# Altium footprint library BATTERIJ_OPLADERS.PcbLib: 2 footprints
Each footprint in its own frame and in the unit in brackets; x right, y up, seen from the top. Pads: shape width x height; smd on the part's side, far side on the other; paste and mask are expansions set on the pad; w line width, h text height; cw(c..) or ccw(c..) is an arc to the next point about the centre after c.
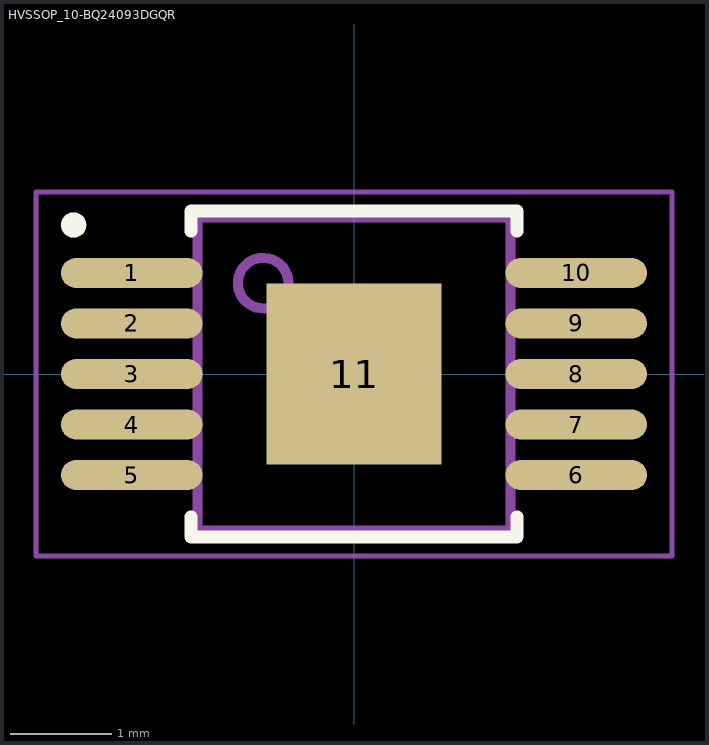
[diagram p0: the footprints below, top view; thin cyan lines are the x and y axes]

## HVSSOP_10-BQ24093DGQR [mm] "Battery Management 1A Sgl-Inp Sgl-Cell Li-Ion Batt Charger"
height 2
pads (11):
  oval 1.4x0.3 smd: 1(-2.2,1) 2(-2.2,0.5) 3(-2.2,0) 4(-2.2,-0.5) 5(-2.2,-1) 6(2.2,-1) 7(2.2,-0.5) 8(2.2,0) 9(2.2,0.5) 10(2.2,1)
  rect 1.73x1.79 smd: 11(0,0)
Top Overlay:
  circle w0.125: c-2.775,1.475 r0.062
  lines w0.127: -1.613,-1.413 -1.613,-1.613 1.613,-1.613 1.613,-1.413 ; -1.613,1.413 -1.613,1.613 1.613,1.613 1.613,1.413
Top Courtyard:
  lines w0.05: -3.15,-1.8 3.15,-1.8 3.15,1.8 -3.15,1.8 -3.15,-1.8
Top Assembly:
  circle w0.1: c-0.9,0.9 r0.25
  lines w0.1: -1.55,-1.55 1.55,-1.55 1.55,1.55 -1.55,1.55 -1.55,-1.55
Top Component Center:
  lines w0.1: -0.5,0 0.5,0 ; 0,-0.5 0,0.5
3D body "BQ24093DGQR.stp": height 1.1, standoff 0, extent -2.45,-1.5 2.45,1.5

## SOIC-16_LTC4060 [mm] "Battery Charger, NiMH/NiCd, Standalone, Linear, 1-4 Cell"